# EAGLE library part LTC3401 (library linear-technology)
1A, 3MHz Micropower Synchronous Boost Converter
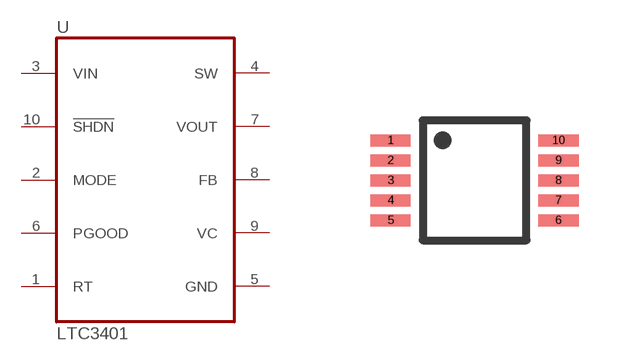
[diagram p66: symbol with the pads of MS10; footprint MS10]

Designator prefix U

## LTC3401MS  [MS10]
1  RT  pas
2  MODE  in
3  VIN  pas
4  SW  pas
5  GND  pas
6  PGOOD  out
7  VOUT  pas
8  FB  in
9  VC  pas
10  !SHDN!  in

## Footprint MS10 (pad centres in mm)
smd 1 x 0.3: 1 -2.1,1; 2 -2.1,0.5; 3 -2.1,0; 4 -2.1,-0.5; 5 -2.1,-1; 6 2.1,-1; 7 2.1,-0.5; 8 2.1,0; 9 2.1,0.5; 10 2.1,1